# Altium footprint library DIP6.PcbLib: 1 footprints
Each footprint in its own frame and in the unit in brackets; x right, y up, seen from the top. Pads: shape width x height; smd on the part's side, far side on the other; paste and mask are expansions set on the pad; w line width, h text height; cw(c..) or ccw(c..) is an arc to the next point about the centre after c.
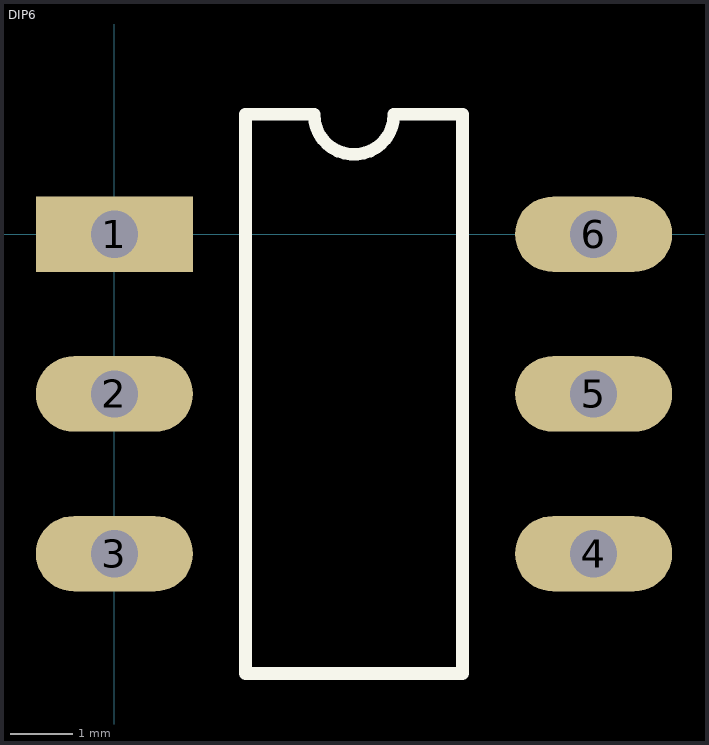
[diagram p0: the footprint, top view; thin cyan lines are the x and y axes]

## DIP6 [mm]
pads (6):
  rect 2.5x1.2 hole 0.75: 1(0,0)
  oval 2.5x1.2 hole 0.75: 2(0,-2.54) 3(0,-5.08) 4(7.62,-5.08) 5(7.62,-2.54) 6(7.62,0)
Top Overlay:
  lines w0.2: 2.085,-6.985 2.085,1.905 3.175,1.905 ccw(c3.81,1.905) 4.445,1.905 5.535,1.905 5.535,-6.985 2.085,-6.985
3D body "DIP_6_7.62.stp": height 4, standoff -3.25, extent -0.15,-6.94 7.77,1.86